# Altium footprint library 6MS.PcbLib: 1 footprints
Each footprint in its own frame and in the unit in brackets; x right, y up, seen from the top. Pads: shape width x height; smd on the part's side, far side on the other; paste and mask are expansions set on the pad; w line width, h text height; cw(c..) or ccw(c..) is an arc to the next point about the centre after c.
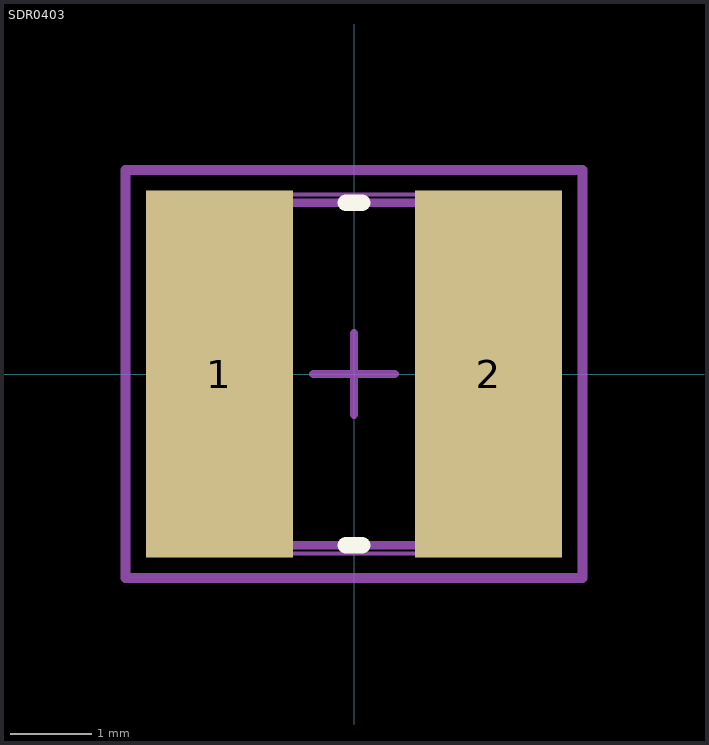
[diagram p0: the footprint, top view; thin cyan lines are the x and y axes]

## SDR0403 [mm] "Precision Wire Wound Inductor, 2-Leads, Body 4.5Dx3.2mmH"
height 3.2
pads (2):
  rect 1.8x4.5 smd: 1(-1.65,0) 2(1.65,0)
Top Overlay:
  lines w0.2: -0.1,-2.1 0.1,-2.1 ; -0.1,2.1 0.1,2.1
Top Assembly:
  lines w0.1: -2.1,-2.1 2.1,-2.1 2.1,2.1 -2.1,2.1 -2.1,-2.1
Top Courtyard:
  lines w0.05: -2.475,-2.2 2.475,-2.2 2.475,2.2 -2.475,2.2 -2.475,-2.2
  lines w0.1: -0.5,0 0.5,0 ; 0,-0.5 0,0.5
Mechanical 11:
  lines w0.127: -2.8,-2.5 -2.8,2.5 2.8,2.5 2.8,-2.5 -2.8,-2.5
  text ".Designator" at -0.7,2.1 h1
3D body: height 3.2, standoff 0, extent -2.25,-2.247 2.25,2.247